# EAGLE library part TCA9548A (library G1Tech-Integrated-Circuits)
http://www.ti.com/lit/ds/symlink/tca9548a.pdf
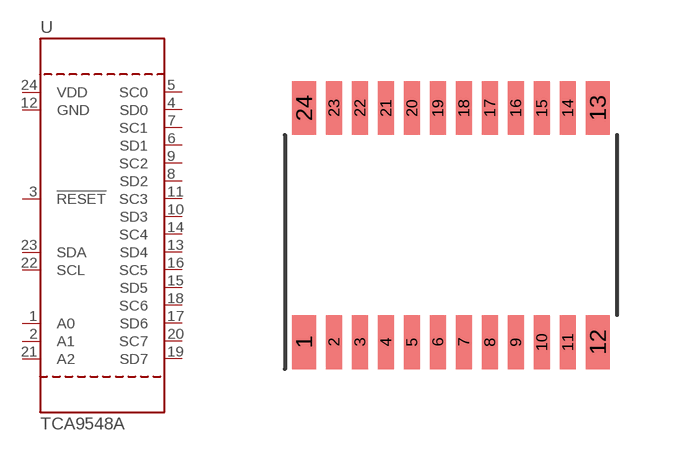
[diagram p4: symbol with the pads of TSSOP24; footprint TSSOP24]

Designator prefix U

## TCA9548A  [TSSOP24]
1  A0
2  A1
3  !RESET
4  SD0
5  SC0
6  SD1
7  SC1
8  SD2
9  SC2
10  SD3
11  SC3
12  GND  pwr
13  SD4
14  SC4
15  SD5
16  SC5
17  SD6
18  SC6
19  SD7
20  SC7
21  A2
22  SCL
23  SDA
24  VDD  pwr

## Footprint TSSOP24 (pad centres in mm)
http://www.ti.com/lit/ds/symlink/tca9548a.pdf Reflow soldering footprint for TSSOP24 (SOT355-1) https://www.nxp.com/docs/en/package-information/SOT355-1.pdf
smd 0.6 x 1.35: 1 -3.675,-2.925; 12 3.675,-2.925; 13 3.675,2.925; 24 -3.675,2.925
smd 0.4 x 1.35: 2 -2.925,-2.925; 3 -2.275,-2.925; 4 -1.625,-2.925; 5 -0.975,-2.925; 6 -0.325,-2.925; 7 0.325,-2.925; 8 0.975,-2.925; 9 1.625,-2.925; 10 2.275,-2.925; 11 2.925,-2.925; 14 2.925,2.925; 15 2.275,2.925; 16 1.625,2.925; 17 0.975,2.925; 18 0.325,2.925; 19 -0.325,2.925; 20 -0.975,2.925; 21 -1.625,2.925; 22 -2.275,2.925; 23 -2.925,2.925